# EAGLE library part GL865 (library balto)
GL865 Modem
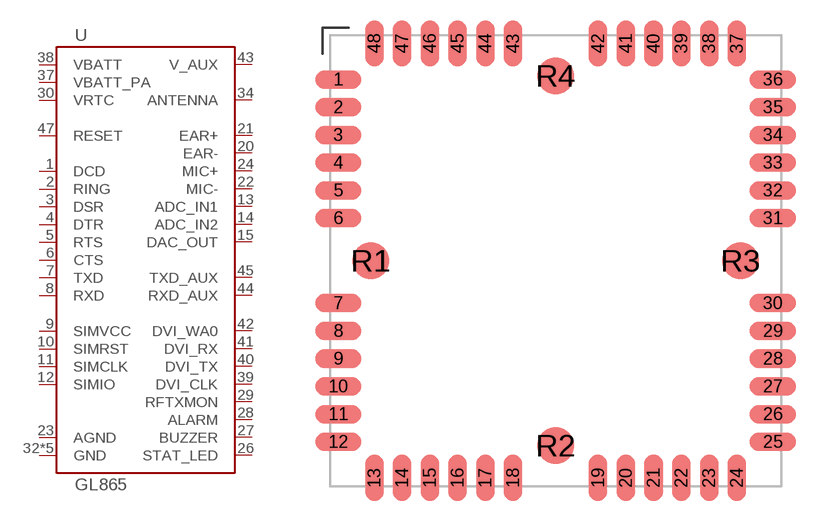
[diagram p82: symbol with the pads of GL865; footprint GL865]

Designator prefix U

## GL865  [GL865]
1  DCD
2  RING
3  DSR
4  DTR
5  RTS
6  CTS
7  TXD
8  RXD
9  SIMVCC
10  SIMRST
11  SIMCLK
12  SIMIO
13  ADC_IN1
14  ADC_IN2
15  DAC_OUT
20  EAR-
21  EAR+
22  MIC-
23  AGND
24  MIC+
26  STAT_LED
27  BUZZER
28  ALARM
29  RFTXMON
30  VRTC
32  GND
33  GND
34  ANTENNA
35  GND
36  GND
37  VBATT_PA
38  VBATT
39  DVI_CLK
40  DVI_TX
41  DVI_RX
42  DVI_WA0
43  V_AUX
44  RXD_AUX
45  TXD_AUX
46  GND
47  RESET

## Footprint GL865 (pad centres in mm)
GL865 Modem
smd 2.5 x 1: 1 -11.75,9.8; 2 -11.75,8.3; 3 -11.75,6.8; 4 -11.75,5.3; 5 -11.75,3.8; 6 -11.75,2.3; 7 -11.75,-2.3; 8 -11.75,-3.8; 9 -11.75,-5.3; 10 -11.75,-6.8; 11 -11.75,-8.3; 12 -11.75,-9.8; 25 11.75,-9.8; 26 11.75,-8.3; 27 11.75,-6.8; 28 11.75,-5.3; 29 11.75,-3.8; 30 11.75,-2.3; 31 11.75,2.3; 32 11.75,3.8; 33 11.75,5.3; 34 11.75,6.8; 35 11.75,8.3; 36 11.75,9.8
smd 1 x 2.5: 13 -9.8,-11.75; 14 -8.3,-11.75; 15 -6.8,-11.75; 16 -5.3,-11.75; 17 -3.8,-11.75; 18 -2.3,-11.75; 19 2.3,-11.75; 20 3.8,-11.75; 21 5.3,-11.75; 22 6.8,-11.75; 23 8.3,-11.75; 24 9.8,-11.75; 37 9.8,11.75; 38 8.3,11.75; 39 6.8,11.75; 40 5.3,11.75; 41 3.8,11.75; 42 2.3,11.75; 43 -2.3,11.75; 44 -3.8,11.75; 45 -5.3,11.75; 46 -6.8,11.75; 47 -8.3,11.75; 48 -9.8,11.75
smd 2 x 2: R1 -10,0; R2 0,-10; R3 10,0; R4 0,10